# EAGLE library part MC9-G (library con-phoenix-381_l)
Mini-Combicon 3.81mm horizontal 9-polig MC 1,5/9-G-3,81 Artikel-Nr. 1803345 mit Gegenstecker MC 1,5/9-ST-3,81 Artikel-Nr. 1803646
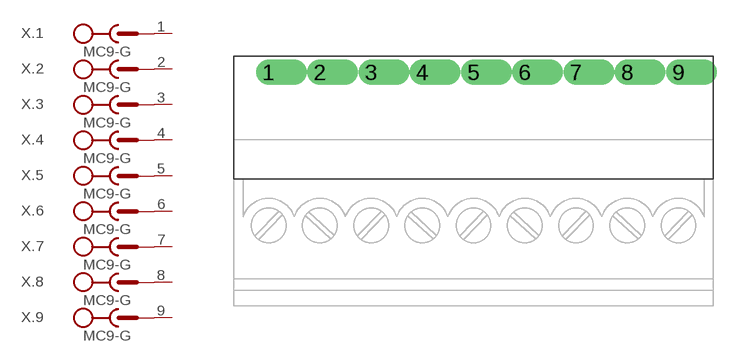
[diagram p16: symbol with the pads of MC9-G; footprint MC9-G]

Designator prefix X; gates .1=SK+V .2=SK+V .3=SK+V .4=SK+V .5=SK+V .6=SK+V .7=SK+V .8=SK+V .9=SK+V

## MC9-G  [MC9-G]
1  .1:SK  pas
2  .2:SK  pas
3  .3:SK  pas
4  .4:SK  pas
5  .5:SK  pas
6  .6:SK  pas
7  .7:SK  pas
8  .8:SK  pas
9  .9:SK  pas

## Footprint MC9-G (pad centres in mm)
Mini-Combicon 3.81mm horizontal 9-polig MC 1,5/9-G-3,81 Artikel-Nr. 1803345 mit Gegenstecker MC 1,5/9-ST-3,81 Artikel-Nr. 1803646
drill 1.27 offset: 1 -15.24,0; 2 -11.43,0; 3 -7.62,0; 4 -3.81,0; 5 0,0; 6 3.81,0; 7 7.62,0; 8 11.43,0; 9 15.24,0